# Altium footprint library RFmodules.PcbLib: 47 footprints (part 1 of 3)
Each footprint in its own frame and in the unit in brackets; x right, y up, seen from the top. Pads: shape width x height; smd on the part's side, far side on the other; paste and mask are expansions set on the pad; w line width, h text height; cw(c..) or ccw(c..) is an arc to the next point about the centre after c.
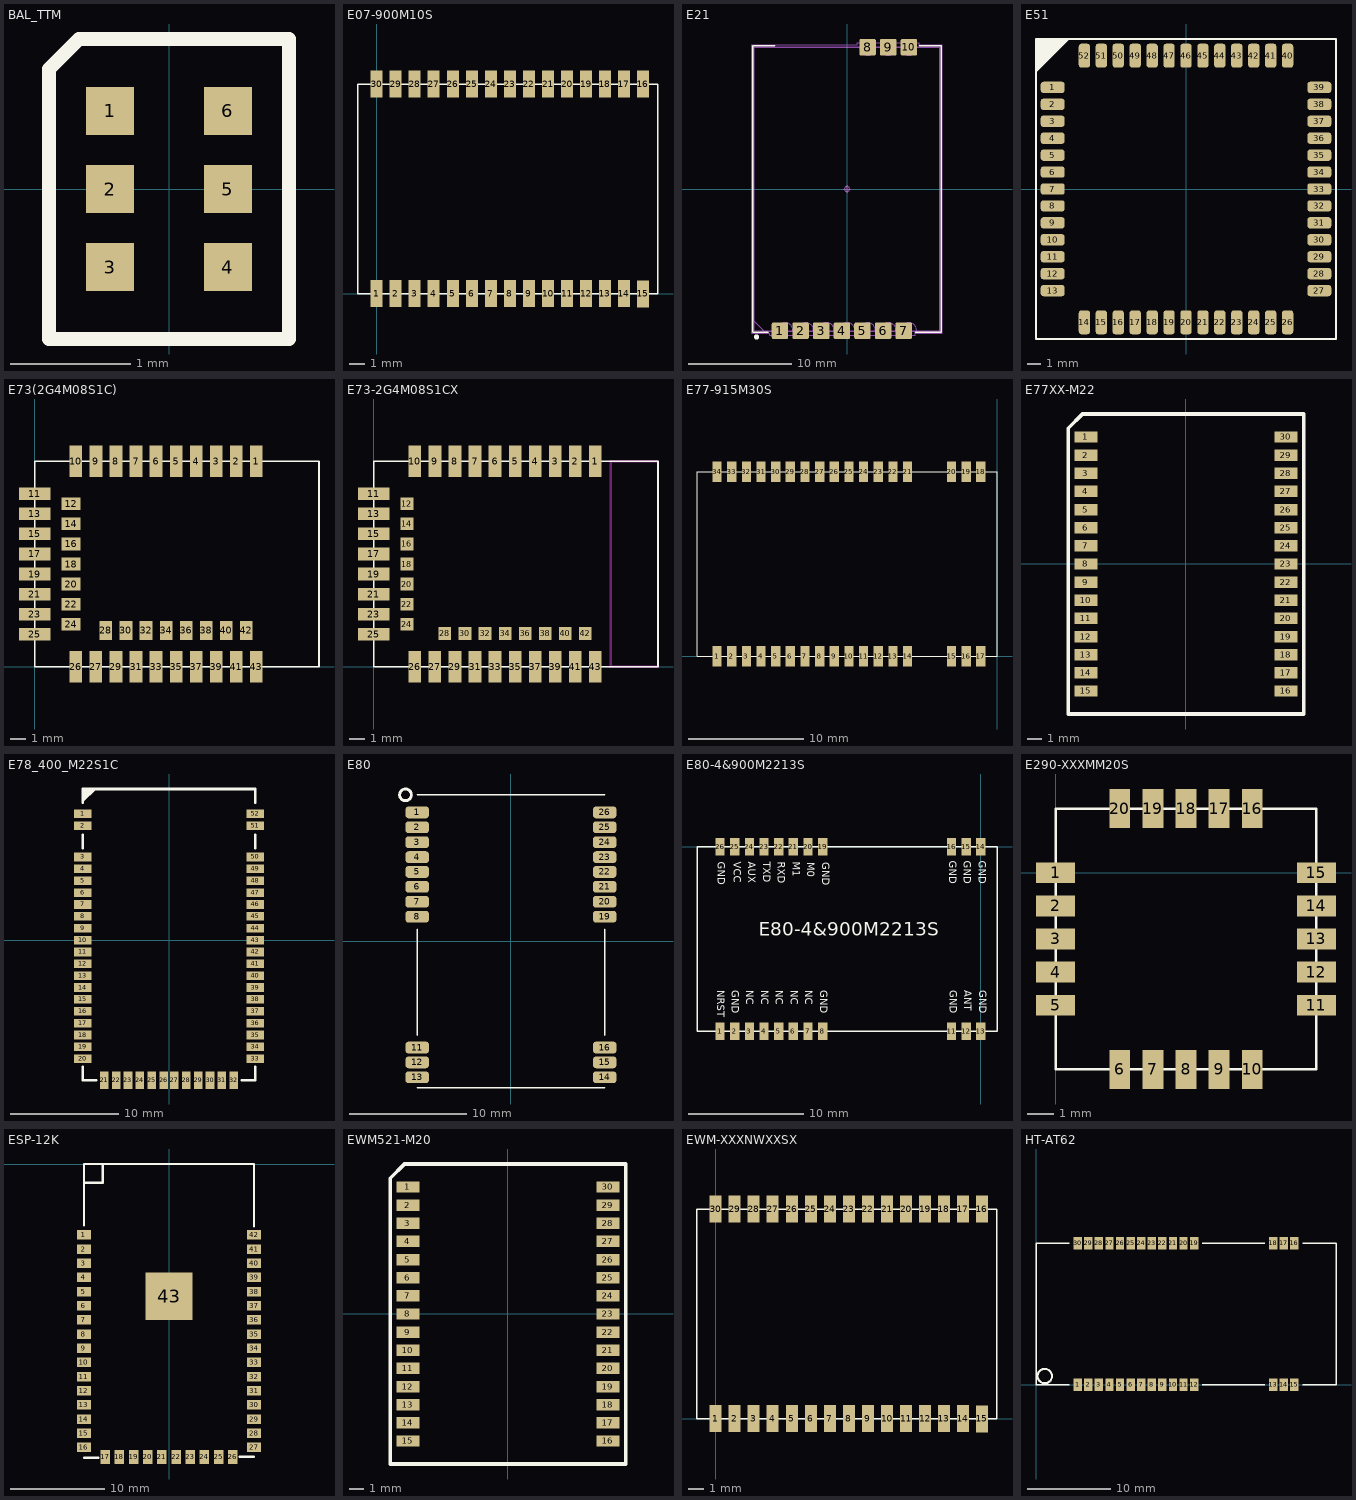
[diagram p0: the footprints below, top view; thin cyan lines are the x and y axes]

## BAL_TTM [mm]
pads (6):
  rect 0.4x0.4 smd: 1(-0.49,0.65) 2(-0.49,0) 3(-0.49,-0.65) 4(0.49,-0.65) 5(0.49,0) 6(0.49,0.65)
Top Overlay:
  lines w0.12: -1,-1.25 -1,1 -0.75,1.25 1,1.25 1,-1.25 -1,-1.25
3D body: height 0.8, standoff 0, extent -0.75,-1 0.75,1

## E07-900M10S [mm] "20mm*14mm*2.8mm-S"
pads (30):
  rect 0.8x1.8 smd: 1(0,0) 2(1.27,0) 3(2.54,0) 4(3.81,0) 5(5.08,0) 6(6.35,0) 7(7.62,0) 8(8.89,0) 9(10.16,0) 10(11.43,0) 11(12.7,0) 12(13.97,0) 13(15.222,0) 14(16.492,0) 15(17.762,-0.03) 16(17.762,13.97) 17(16.492,13.97) 18(15.222,13.97) 19(13.97,13.97) 20(12.7,13.97) 21(11.43,13.97) 22(10.16,13.97) 23(8.89,13.97) 24(7.62,13.97) 25(6.35,13.97) 26(5.08,13.97) 27(3.81,13.97) 28(2.54,13.97) 29(1.27,13.97) 30(0,13.97)
Top Overlay:
  lines w0.1: -1.238,-0.03 -1.238,13.97 18.762,13.97 18.762,-0.03 -1.238,-0.03
3D body "E77-400M22S.STEP": height 2.7, standoff -0.01, extent -1.2,0 18.78,14

## E21 [mm] "Small Outline No-Lead (SON), 2.00 mm pitch; 14 pin, 18.00 mm L X 27.50 mm W X 3.00 mm H body"
height 3
pads (10):
  rrect18% 1.6x1.6 smd: 1(-6.5,-13.75) 2(-4.5,-13.75) 3(-2.5,-13.75) 4(-0.5,-13.75) 5(1.5,-13.75) 6(3.5,-13.75) 7(5.5,-13.75) 8(2,13.75) 9(4,13.75) 10(6,13.75)
Top Overlay:
  circle w0.25: c-8.763,-14.351 r0.125
  lines w0.15: -7.62,-13.875 -9.125,-13.875 -9.125,13.875 -7.025,13.875 ; 6.604,-13.875 9.125,-13.875 9.125,13.875 7.025,13.875
Bottom Component Center:
  lines w0.05: -9.25,-14 -7.493,-14 -7.493,-14.202 6.604,-14.202 6.604,-14 9.25,-14 9.25,14 7,14 7,14.202 1.016,14.202 1.016,14 -9.25,14 -9.25,-14
Mechanical 9:
  lines w0.12: -9.05,-12.8 -9.05,13.8 9.05,13.8 9.05,-13.8 -8.05,-13.8 -9.05,-12.8
  text ".Designator" at -4.511,-0.453 h2
Mechanical 11:
  text ".Designator" at -2.704,-0.271 h1.2
Bottom Courtyard:
  circle w0.05: c0,0 r0.25
  lines w0.05: -0.35,0 0.35,0 ; 0,-0.35 0,0.35
Bottom Value:
  lines w0.025: -6.75,13.7 -6.75,13.75 -5.25,13.75 -5.25,13.7 ; -4.75,13.7 -4.75,13.75 -3.25,13.75 -3.25,13.7 ; -2.75,13.7 -2.75,13.75 -1.25,13.75 -1.25,13.7 ; -0.75,13.7 -0.75,13.75 0.75,13.75 0.75,13.7 ; -9,-13.75 9,-13.75 9,13.75 -9,13.75 -9,-13.75 ; -6.75,-13.75 -5.25,-13.75 -5.25,-13.7 ccw(c-6,-13.7) -6.75,-13.7 -6.75,-13.75 ; -4.75,-13.75 -3.25,-13.75 -3.25,-13.7 ccw(c-4,-13.7) -4.75,-13.7 -4.75,-13.75 ; -2.75,-13.75 -1.25,-13.75 -1.25,-13.7 ccw(c-2,-13.7) -2.75,-13.7 -2.75,-13.75 ; -0.75,-13.75 0.75,-13.75 0.75,-13.7 ccw(c0,-13.7) -0.75,-13.7 -0.75,-13.75 ; 1.25,-13.75 2.75,-13.75 2.75,-13.7 ccw(c2,-13.7) 1.25,-13.7 1.25,-13.75 ; 1.25,13.7 ccw(c2,13.7) 2.75,13.7 2.75,13.75 1.25,13.75 1.25,13.7 ; 3.25,-13.75 4.75,-13.75 4.75,-13.7 ccw(c4,-13.7) 3.25,-13.7 3.25,-13.75 ; 3.25,13.7 ccw(c4,13.7) 4.75,13.7 4.75,13.75 3.25,13.75 3.25,13.7 ; 5.25,-13.75 6.75,-13.75 6.75,-13.7 ccw(c6,-13.7) 5.25,-13.7 5.25,-13.75 ; 5.25,13.7 ccw(c6,13.7) 6.75,13.7 6.75,13.75 5.25,13.75 5.25,13.7
3D body "E21.STEP": height 3, standoff 0, extent -9,-13.8 9,13.8

## E51 [mm]
pads (52):
  rrect50% 1.8x0.85 smd: 1(-10,7.62) 2(-10,6.35) 3(-10,5.08) 4(-10,3.81) 5(-10,2.54) 6(-10,1.27) 7(-10,0) 8(-10,-1.27) 9(-10,-2.54) 10(-10,-3.81) 11(-10,-5.08) 12(-10,-6.35) 13(-10,-7.62) 27(10,-7.62) 28(10,-6.35) 29(10,-5.08) 30(10,-3.81) 31(10,-2.54) 32(10,-1.27) 33(10,0) 34(10,1.27) 35(10,2.54) 36(10,3.81) 37(10,5.08) 38(10,6.35) 39(10,7.62)
  rrect50% 0.85x1.8 smd: 14(-7.62,-10) 15(-6.35,-10) 16(-5.08,-10) 17(-3.81,-10) 18(-2.54,-10) 19(-1.27,-10) 20(0,-10) 21(1.27,-10) 22(2.54,-10) 23(3.81,-10) 24(5.08,-10) 25(6.35,-10) 26(7.62,-10) 40(7.62,10) 41(6.35,10) 42(5.08,10) 43(3.81,10) 44(2.54,10) 45(1.27,10) 46(0,10) 47(-1.27,10) 48(-2.54,10) 49(-3.81,10) 50(-5.08,10) 51(-6.35,10) 52(-7.62,10)
Top Overlay:
  region: -11.25,11.25 -8.75,11.25 -11.25,8.75
  lines w0.15: -11.25,-11.25 -11.25,11.25 11.25,11.25 11.25,-11.25 -11.25,-11.25
3D body: height 3, standoff 0, extent -10,-10 10,10

## E73(2G4M08S1C) [mm]
pads (43):
  rect 0.8x2 smd: 1(14.03,13) 2(12.76,13) 3(11.49,13) 4(10.22,13) 5(8.95,13) 6(7.68,13) 7(6.41,13) 8(5.14,13) 9(3.873,13) 10(2.6,13) 26(2.6,0) 27(3.87,0) 29(5.14,0) 31(6.41,0) 33(7.68,0) 35(8.95,0) 37(10.22,0) 39(11.49,0) 41(12.757,0) 43(14.03,0)
  rect 2x0.8 smd: 11(0,10.945) 13(0,9.675) 15(0,8.405) 17(0,7.135) 19(0,5.865) 21(0,4.595) 23(0,3.325) 25(0,2.055)
  rect 1.2x0.8 smd: 12(2.3,10.31) 14(2.3,9.04) 16(2.3,7.77) 18(2.3,6.5) 20(2.3,5.23) 22(2.3,3.96) 24(2.3,2.69)
  rect 0.8x1.2 smd: 28(4.505,2.3) 30(5.775,2.3) 32(7.045,2.3) 34(8.315,2.3) 36(9.585,2.3) 38(10.855,2.3) 40(12.125,2.3) 42(13.39,2.3)
Top Overlay:
  lines w0.1: 0,0 0,13 18,13 18,0 0,0
3D body "E73-2G4M08S1C.step": height 3, standoff -0.05, extent 0,0 18.288,13

## E73-2G4M08S1CX [mm]
pads (43):
  rect 0.8x2 smd: 1(14.03,13) 2(12.76,13) 3(11.49,13) 4(10.22,13) 5(8.95,13) 6(7.68,13) 7(6.41,13) 8(5.14,13) 9(3.873,13) 10(2.6,13) 26(2.6,0) 27(3.87,0) 29(5.14,0) 31(6.41,0) 33(7.68,0) 35(8.95,0) 37(10.22,0) 39(11.49,0) 41(12.757,0) 43(14.03,0)
  rect 2x0.8 smd: 11(0,10.945) 13(0,9.675) 15(0,8.405) 17(0,7.135) 19(0,5.865) 21(0,4.595) 23(0,3.325) 25(0,2.055)
  rect 0.8x0.8 smd: 12(2.1,10.31) 14(2.1,9.04) 16(2.1,7.77) 18(2.1,6.5) 20(2.1,5.23) 22(2.1,3.96) 24(2.1,2.69) 28(4.505,2.1) 30(5.775,2.1) 32(7.045,2.1) 34(8.315,2.1) 36(9.585,2.1) 38(10.855,2.1) 40(12.125,2.1) 42(13.395,2.1)
Top Overlay:
  lines w0.1: 0,0 18,0 18,13 0,13 0,0
Keep-Out Layer:
  lines w0.15: 15,0 15,13 18,13 18,0 15,0
3D body "E73-2G4M08S1C.step": height 3, standoff -0.05, extent 0,0 18.288,13

## E77-915M30S [mm]
pads (34):
  rect 0.8x1.8 smd: 1(-24.26,0) 2(-22.99,0) 3(-21.72,0) 4(-20.45,0) 5(-19.18,0) 6(-17.91,0) 7(-16.64,0) 8(-15.37,0) 9(-14.1,0) 10(-12.83,0) 11(-11.56,0) 12(-10.29,0) 13(-9.02,0) 14(-7.75,0) 15(-3.94,0) 16(-2.67,0) 17(-1.4,0) 18(-1.4,16) 19(-2.67,16) 20(-3.94,16) 21(-7.75,16) 22(-9.02,16) 23(-10.29,16) 24(-11.56,16) 25(-12.83,16) 26(-14.1,16) 27(-15.37,16) 28(-16.64,16) 29(-17.91,16) 30(-19.18,16) 31(-20.45,16) 32(-21.72,16) 33(-22.99,16) 34(-24.26,16)
Top Overlay:
  lines w0.1: -26,0 -26,16 0,16 0,0 -26,0
3D body: height 2.5, standoff 0, extent -26,0 0,16.127

## E77XX-M22 [mm]
pads (30):
  rect 1.6x0.8 smd: 1(-7,8.89) 2(-7,7.62) 3(-7,6.35) 4(-7,5.08) 5(-7,3.81) 6(-7,2.54) 7(-7,1.27) 8(-7,0) 9(-7,-1.27) 10(-7,-2.54) 11(-7,-3.81) 12(-7,-5.08) 13(-7,-6.35) 14(-7,-7.62) 15(-7,-8.89) 16(7,-8.89) 17(7,-7.62) 18(7,-6.35) 19(7,-5.08) 20(7,-3.81) 21(7,-2.54) 22(7,-1.27) 23(7,0) 24(7,1.27) 25(7,2.54) 26(7,3.81) 27(7,5.08) 28(7,6.35) 29(7,7.62) 30(7,8.89)
Top Overlay:
  lines w0.254: -8.25,-10.5 -8.25,9.25 -8.25,9.5 -7.25,10.5 8.25,10.5 8.25,-10.5 -8.25,-10.5
3D body "E77-400M22S.STEP": height 2.7, standoff -0.01, extent -7,-9.68 7,10.3

## E78_400_M22S1C [mm]
pads (52):
  rect 1.6x0.8 smd: 1(-8,11.7) 2(-8,10.6) 3(-8,7.7) 4(-8,6.6) 5(-8,5.5) 6(-8,4.4) 7(-8,3.3) 8(-8,2.2) 9(-8,1.1) 10(-8,0) 11(-8,-1.1) 12(-8,-2.2) 13(-8,-3.3) 14(-8,-4.4) 15(-8,-5.5) 16(-8,-6.6) 17(-8,-7.7) 18(-8,-8.8) 19(-8,-9.9) 20(-8,-11) 33(8,-11) 34(8,-9.9) 35(8,-8.8) 36(8,-7.7) 37(8,-6.6) 38(8,-5.5) 39(8,-4.4) 40(8,-3.3) 41(8,-2.2) 42(8,-1.1) 43(8,0) 44(8,1.1) 45(8,2.2) 46(8,3.3) 47(8,4.4) 48(8,5.5) 49(8,6.6) 50(8,7.7) 51(8,10.6) 52(8,11.7)
  rect 0.8x1.6 smd: 21(-6,-13) 22(-4.9,-13) 23(-3.8,-13) 24(-2.7,-13) 25(-1.6,-13) 26(-0.5,-13) 27(0.5,-13) 28(1.6,-13) 29(2.7,-13) 30(3.8,-13) 31(4.9,-13) 32(6,-13)
Top Overlay:
  region: -8,12.75 -8,14 -6.75,14
  lines w0.254: -8,-11.75 -8,-13 -6.75,-13 ; -8,8.5 -8,9.75 ; -8,12.75 -8,14 8,14 8,12.75 ; 6.75,-13 8,-13 8,-11.75 ; 8,8.5 8,9.75
3D body: height 2.8, standoff 0, extent -8,-13 8,13

## E80 [mm]
pads (22):
  rrect50% 2x1 smd: 1(-8,11) 2(-8,9.73) 3(-8,8.46) 4(-8,7.19) 5(-8,5.92) 6(-8,4.65) 7(-8,3.38) 8(-8,2.11) 11(-8,-9.06) 12(-8,-10.33) 13(-8,-11.6) 14(8,-11.6) 15(8,-10.33) 16(8,-9.06) 19(8,2.11) 20(8,3.38) 21(8,4.65) 22(8,5.92) 23(8,7.19) 24(8,8.46) 25(8,9.73) 26(8,11)
Top Overlay:
  circle w0.25: c-9,12.5 r0.5
  lines w0.15: -8,-12.5 8,-12.5 ; -8,-8 -8,1 ; -8,12.5 8,12.5 ; 8,-8 8,1
3D body "E80-XXXM2213S.step": height 2.85, standoff 0, extent -8,-13 8,13

## E80-4&900M2213S [mm] "26mm**16mm*3.23mm-S"
pads (22):
  rect 0.8x1.5 smd: 1(-22.6,-16) 2(-21.33,-16) 3(-20.06,-16) 4(-18.79,-16) 5(-17.52,-16) 6(-16.25,-16) 7(-14.98,-16) 8(-13.71,-16) 11(-2.54,-16) 12(-1.27,-16) 13(0,-16) 14(0,0) 15(-1.27,0) 16(-2.54,0) 19(-13.71,0) 20(-14.98,0) 21(-16.25,0) 22(-17.52,0) 23(-18.79,0) 24(-20.06,0) 25(-21.33,0) 26(-22.6,0)
Top Overlay:
  lines w0.127: -24.6,-16 1.4,-16 1.4,0 -24.6,0 -24.6,-16
  text "GND" at -1.687,-1.224 h1.1
  text "GND" at -2.966,-1.224 h1.1
  text "GND" at -2.916,-12.441 h1.1
  text "ANT" at -1.637,-12.441 h1.1
  text "GND" at -0.358,-12.441 h1.1
  text "GND" at -14.138,-12.441 h1.1
  text "NC" at -15.417,-12.441 h1.1
  text "NC" at -16.696,-12.441 h1.1
  text "NC" at -17.974,-12.441 h1.1
  text "NC" at -19.253,-12.441 h1.1
  text "NC" at -20.532,-12.441 h1.1
  text "GND" at -21.811,-12.441 h1.1
  text "NRST" at -23.06,-12.441 h1.1
  text "GND" at -13.97,-1.351 h1.1
  text "GND" at -23.01,-1.301 h1.1
  text "VCC" at -21.651,-1.301 h1.1
  text "AUX" at -20.372,-1.301 h1.1
  text "TXD" at -19.093,-1.301 h1.1
  text "RXD" at -17.814,-1.301 h1.1
  text "M1" at -16.536,-1.301 h1.1
  text "M0" at -15.257,-1.351 h1.1
  text "E80-4&900M2213S" at -19.253,-8.128 h2
  text "GND" at -0.408,-1.224 h1.1

## E290-XXXMM20S [mm]
height 2.5
pads (20):
  rect 1.5x0.8 smd mask+0.102: 1(0,0) 2(0,-1.27) 3(0,-2.54) 4(0,-3.81) 5(0,-5.08) 11(10,-5.08) 12(10,-3.81) 13(10,-2.54) 14(10,-1.27) 15(10,0)
  rect 0.8x1.5 smd mask+0.102: 6(2.46,-7.54) 7(3.73,-7.54) 8(5,-7.54) 9(6.27,-7.54) 10(7.54,-7.54) 16(7.54,2.46) 17(6.27,2.46) 18(5,2.46) 19(3.73,2.46) 20(2.46,2.46)
Top Overlay:
  lines w0.1: 0,-7.54 0,2.46 10,2.46 10,-7.54 0,-7.54
3D body "E290-400MM20S.step": height 2.55, standoff 0, extent 0.08,-7.54 10.08,2.46

## ESP-12K [mm]
pads (43):
  rect 1.5x1 smd: 1(-9,-7.5) 2(-9,-9) 3(-9,-10.5) 4(-9,-12) 5(-9,-13.5) 6(-9,-15) 7(-9,-16.5) 8(-9,-18) 9(-9,-19.5) 10(-9,-21) 11(-9,-22.5) 12(-9,-24) 13(-9,-25.5) 14(-9,-27) 15(-9,-28.5) 16(-9,-30) 27(9,-30) 28(9,-28.5) 29(9,-27) 30(9,-25.5) 31(9,-24) 32(9,-22.5) 33(9,-21) 34(9,-19.5) 35(9,-18) 36(9,-16.5) 37(9,-15) 38(9,-13.5) 39(9,-12) 40(9,-10.5) 41(9,-9) 42(9,-7.5)
  rect 1x1.5 smd: 17(-6.75,-31) 18(-5.25,-31) 19(-3.75,-31) 20(-2.25,-31) 21(-0.75,-31) 22(0.75,-31) 23(2.25,-31) 24(3.75,-31) 25(5.25,-31) 26(6.75,-31)
  rect 5x5 smd: 43(0,-14)
Top Overlay:
  lines w0.254: -9,-31.1 -7.5,-31.1 ; -9,-6.5 -9,0 9,0 9,-6.6 ; -8.9,-2 -7,-2 -7,-0.1 ; 7.5,-31 9,-31
3D body "ESP32-S2-WROVER.STEP": height 2.9, standoff -0.01, extent -9.1,-31.1 8.893,-0.1

## EWM521-M20 [mm]
pads (30):
  rect 1.6x0.8 smd: 1(-7,8.89) 2(-7,7.62) 3(-7,6.35) 4(-7,5.08) 5(-7,3.81) 6(-7,2.54) 7(-7,1.27) 8(-7,0) 9(-7,-1.27) 10(-7,-2.54) 11(-7,-3.81) 12(-7,-5.08) 13(-7,-6.35) 14(-7,-7.62) 15(-7,-8.89) 16(7,-8.89) 17(7,-7.62) 18(7,-6.35) 19(7,-5.08) 20(7,-3.81) 21(7,-2.54) 22(7,-1.27) 23(7,0) 24(7,1.27) 25(7,2.54) 26(7,3.81) 27(7,5.08) 28(7,6.35) 29(7,7.62) 30(7,8.89)
Top Overlay:
  lines w0.254: -8.25,-10.5 8.25,-10.5 8.25,10.5 -7.25,10.5 -8.25,9.5 -8.25,9.25 -8.25,-10.5
3D body "EWM521-XXXNWXXSX.step": height 2.65, standoff 0, extent -7,-10 7,10

## EWM-XXXNWXXSX [mm] "20mm*14mm*2.8mm-S"
pads (30):
  rect 0.8x1.8 smd: 1(0,0) 2(1.27,0) 3(2.54,0) 4(3.81,0) 5(5.08,0) 6(6.35,0) 7(7.62,0) 8(8.89,0) 9(10.16,0) 10(11.43,0) 11(12.7,0) 12(13.97,0) 13(15.222,0) 14(16.492,0) 15(17.762,-0.03) 16(17.762,13.97) 17(16.492,13.97) 18(15.222,13.97) 19(13.97,13.97) 20(12.7,13.97) 21(11.43,13.97) 22(10.16,13.97) 23(8.89,13.97) 24(7.62,13.97) 25(6.35,13.97) 26(5.08,13.97) 27(3.81,13.97) 28(2.54,13.97) 29(1.27,13.97) 30(0,13.97)
Top Overlay:
  lines w0.1: -1.238,-0.03 18.762,-0.03 18.762,13.97 -1.238,13.97 -1.238,-0.03
3D body "EWM521-XXXNWXXSX.step": height 2.65, standoff 0, extent -1,0 19,14

## HT-AT62 [mm]
pads (30):
  rect 1x1.5 smd: 1(5,0) 2(6.27,0) 3(7.54,0) 4(8.81,0) 5(10.08,0) 6(11.35,0) 7(12.62,0) 8(13.89,0) 9(15.16,0) 10(16.43,0) 11(17.7,0) 12(18.97,0) 13(28.46,0) 14(29.73,0) 15(31,0) 16(31,17) 17(29.73,17) 18(28.46,17) 19(18.97,17) 20(17.7,17) 21(16.43,17) 22(15.16,17) 23(13.89,17) 24(12.62,17) 25(11.35,17) 26(10.08,17) 27(8.81,17) 28(7.54,17) 29(6.27,17) 30(5,17)
Top Overlay:
  circle w0.254: c1.05,1.05 r0.864
  lines w0.152: 4,0 0,0 0,17 4,17 ; 19.97,0 27.46,0 ; 19.97,17 27.46,17 ; 32,0 36,0 36,17 32,17